# Altium schematic symbol library RC0603FR-073K3L.SchLib: 1 symbol
Pins are listed as number, name and electrical type; pins without a type are passive.

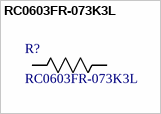
[diagram p0: symbol RC0603FR-073K3L]

## RC0603FR-073K3L
designator R?
Description; Manufacturer_Name: Yageo; Copyright: Copyright (C) 2025 Ultra Librarian. All rights reserved.; Manufacturer_Part_Number: RC0603FR-073K3L
footprint RC0603N_YAG
pins: 1, 2